# EAGLE library part AVR-PDI (library Master)
AVR PDI Programming Header
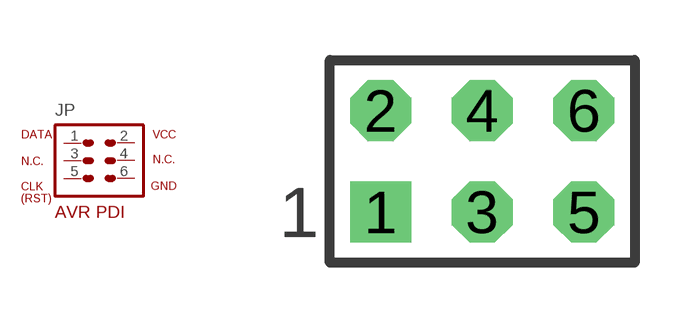
[diagram p18: symbol with the pads of AVR-ISP-6; footprint AVR-ISP-6]

Designator prefix JP

## AVR-PDIVERT  [AVR-ISP-6]
1  1  pas
2  2  pas
3  3  nc
4  4  nc
5  5  pas
6  6  pas

## Footprint AVR-ISP-6 (pad centres in mm)
PIN HEADER JTAG 6 Pin, 0.1" Straight
drill 1.016 square: 1 -2.54,-1.27
drill 1.016 octagon: 2 -2.54,1.27; 3 0,-1.27; 4 0,1.27; 5 2.54,-1.27; 6 2.54,1.27